# EAGLE library part TPS61085DGKR (library circuit_tree)
IC
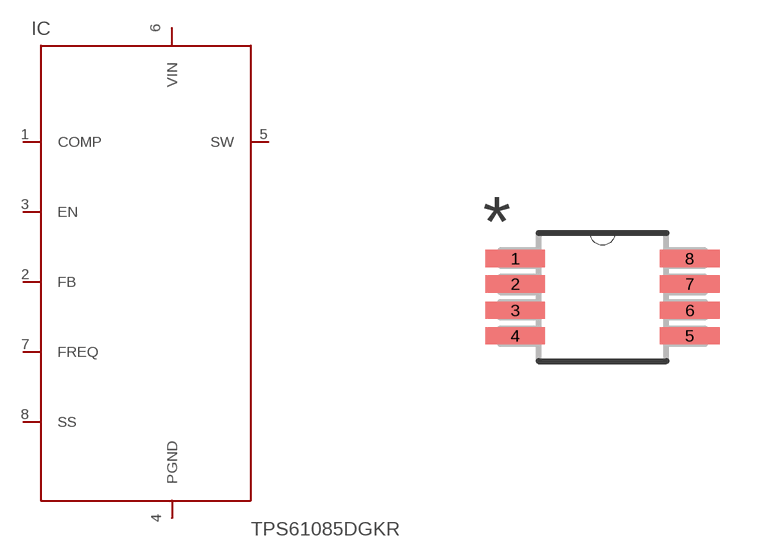
[diagram p9: symbol with the pads of MSOP-8; footprint MSOP-8]

Designator prefix IC

## TPS61085DGKR  [MSOP-8]
1  COMP  pas
2  FB  pas
3  EN  pas
4  PGND  pas
5  SW  pas
6  VIN  pas
7  FREQ  pas
8  SS  pas

## Footprint MSOP-8 (pad centres in mm)
smd 1.499 x 0.432: 1 -2.184,0.965; 2 -2.184,0.33; 3 -2.184,-0.33; 4 -2.184,-0.965; 5 2.184,-0.965; 6 2.184,-0.33; 7 2.184,0.33; 8 2.184,0.965